# Altium footprint library PCB - AUDIO - Soberton SP-1208.PcbLib: 1 footprints
Each footprint in its own frame and in the unit in brackets; x right, y up, seen from the top. Pads: shape width x height; smd on the part's side, far side on the other; paste and mask are expansions set on the pad; w line width, h text height; cw(c..) or ccw(c..) is an arc to the next point about the centre after c.
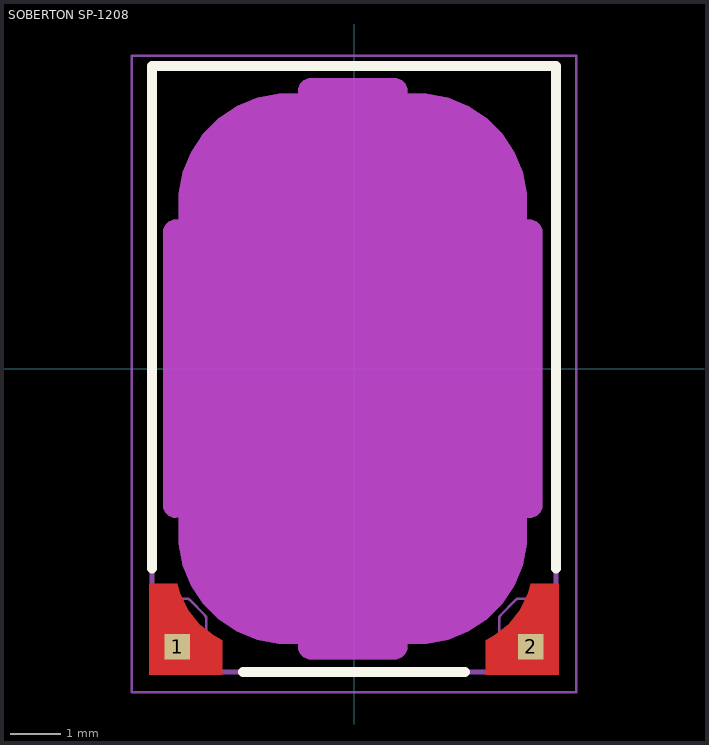
[diagram p0: the footprint, top view; thin cyan lines are the x and y axes]

## SOBERTON SP-1208 [mm] "2 Pads, 12.00 x 8.00 mm Body ,   8 Ohms General Purpose Speaker 250mW 100Hz ~ 10kHz Top Rectangular 63dB"
height 2.83
pads (2):
  rect 0.5x0.5 smd: 1(-3.5,-5.5) 2(3.5,-5.5)
Top Layer:
  region: -4.05,-6.05 -4.05,-4.251 -3.5,-4.251 -3.451,-4.43 -3.293,-4.766 -3.062,-5.056 -2.771,-5.286 -2.607,-5.374 -2.607,-6.05
  region: 4.05,-6.05 4.05,-4.251 3.5,-4.251 3.451,-4.43 3.293,-4.766 3.062,-5.056 2.771,-5.286 2.607,-5.374 2.607,-6.05
Top Overlay:
  lines w0.2: -4,-3.95 -4,6 4,6 4,-3.95 ; -2.2,-6 0,-6 2.2,-6
Keep-Out Layer:
  board cut-out: -3.526,-2.947 -3.474,-2.947 -3.474,-3.247 -3.474,-3.464 -3.389,-3.888 -3.224,-4.288 -2.983,-4.648 -2.677,-4.955 -2.317,-5.195 -1.917,-5.361 -1.492,-5.446 -1.276,-5.446 -1.101,-5.446 -1.101,-5.497 -1.101,-5.547 -1.062,-5.639 -0.992,-5.709 -0.9,-5.747 -0.851,-5.747 0.799,-5.747 0.849,-5.747 0.941,-5.709 1.011,-5.639 1.049,-5.547 1.049,-5.497 1.049,-5.446 1.224,-5.446 1.441,-5.446 1.866,-5.361 2.266,-5.195 2.626,-4.955 2.932,-4.648 3.173,-4.288 3.338,-3.888 3.423,-3.464 3.423,-3.247 3.423,-2.947 3.474,-2.947 3.524,-2.947 3.616,-2.909 3.686,-2.839 3.724,-2.747 3.724,-2.697 3.724,2.703 3.724,2.753 3.686,2.845 3.616,2.915 3.524,2.953 3.474,2.953 3.423,2.953 3.423,3.253 3.423,3.469 3.338,3.894 3.173,4.294 2.932,4.654 2.626,4.961 2.266,5.201 1.866,5.367 1.441,5.451 1.224,5.451 1.049,5.451 1.049,5.503 1.049,5.553 1.011,5.645 0.941,5.715 0.849,5.753 0.799,5.753 -0.851,5.753 -0.9,5.753 -0.992,5.715 -1.062,5.645 -1.101,5.553 -1.101,5.503 -1.101,5.451 -1.276,5.451 -1.492,5.451 -1.917,5.367 -2.317,5.201 -2.677,4.961 -2.983,4.654 -3.224,4.294 -3.389,3.894 -3.474,3.469 -3.474,3.253 -3.474,2.953 -3.526,2.953 -3.575,2.953 -3.667,2.915 -3.737,2.845 -3.776,2.753 -3.776,2.703 -3.776,-2.697 -3.776,-2.747 -3.737,-2.839 -3.667,-2.909 -3.575,-2.947
Mechanical 13:
  lines w0.05: -3.776,-5.647 ccw(c-3.676,-5.647) -3.676,-5.747 -3.026,-5.747 ccw(c-3.026,-5.647) -2.926,-5.647 -2.926,-4.946 ccw(c-3.026,-4.946) -2.954,-4.876 -3.245,-4.577 ccw(c-3.317,-4.647) -3.317,-4.547 -3.676,-4.547 ccw(c-3.676,-4.647) -3.776,-4.647 -3.776,-5.647 ; 2.874,-5.647 ccw(c2.974,-5.647) 2.974,-5.747 3.624,-5.747 ccw(c3.624,-5.647) 3.724,-5.647 3.724,-4.647 ccw(c3.624,-4.647) 3.624,-4.547 3.266,-4.547 ccw(c3.266,-4.647) 3.194,-4.577 2.903,-4.876 ccw(c2.974,-4.946) 2.874,-4.946 2.874,-5.647
  lines w0.1: -4,-6 -4,6 4,6 4,-6 -4,-6
Mechanical 15:
  lines w0.05: -4.4,-6.4 4.4,-6.4 4.4,6.2 -4.4,6.2 -4.4,-6.4
  lines w0.1: -1,0 0,0 ; 0,-1 0,0 ; 0,1 0,0 ; 1,0 0,0
Route Tool Path:
  region: -3.526,-2.947 -3.474,-2.947 -3.474,-3.247 -3.474,-3.464 -3.389,-3.888 -3.224,-4.288 -2.983,-4.648 -2.677,-4.955 -2.317,-5.195 -1.917,-5.361 -1.492,-5.446 -1.276,-5.446 -1.101,-5.446 -1.101,-5.497 -1.101,-5.547 -1.062,-5.639 -0.992,-5.709 -0.9,-5.747 -0.851,-5.747 0.799,-5.747 0.849,-5.747 0.941,-5.709 1.011,-5.639 1.049,-5.547 1.049,-5.497 1.049,-5.446 1.224,-5.446 1.441,-5.446 1.866,-5.361 2.266,-5.195 2.626,-4.955 2.932,-4.648 3.173,-4.288 3.338,-3.888 3.423,-3.464 3.423,-3.247 3.423,-2.947 3.474,-2.947 3.524,-2.947 3.616,-2.909 3.686,-2.839 3.724,-2.747 3.724,-2.697 3.724,2.703 3.724,2.753 3.686,2.845 3.616,2.915 3.524,2.953 3.474,2.953 3.423,2.953 3.423,3.253 3.423,3.469 3.338,3.894 3.173,4.294 2.932,4.654 2.626,4.961 2.266,5.201 1.866,5.367 1.441,5.451 1.224,5.451 1.049,5.451 1.049,5.503 1.049,5.553 1.011,5.645 0.941,5.715 0.849,5.753 0.799,5.753 -0.851,5.753 -0.9,5.753 -0.992,5.715 -1.062,5.645 -1.101,5.553 -1.101,5.503 -1.101,5.451 -1.276,5.451 -1.492,5.451 -1.917,5.367 -2.317,5.201 -2.677,4.961 -2.983,4.654 -3.224,4.294 -3.389,3.894 -3.474,3.469 -3.474,3.253 -3.474,2.953 -3.526,2.953 -3.575,2.953 -3.667,2.915 -3.737,2.845 -3.776,2.753 -3.776,2.703 -3.776,-2.697 -3.776,-2.747 -3.737,-2.839 -3.667,-2.909 -3.575,-2.947
3D body "Soberton - SP-1208 v4.step": height 1.93, standoff -0.9, extent -4,-6 4,6